# Altium schematic symbol library SCH - ARM CORTEX - NXP LPC11U2X LQFP64.SCHLIB: 1 symbol
Pins are listed as number, name and electrical type; pins without a type are passive.

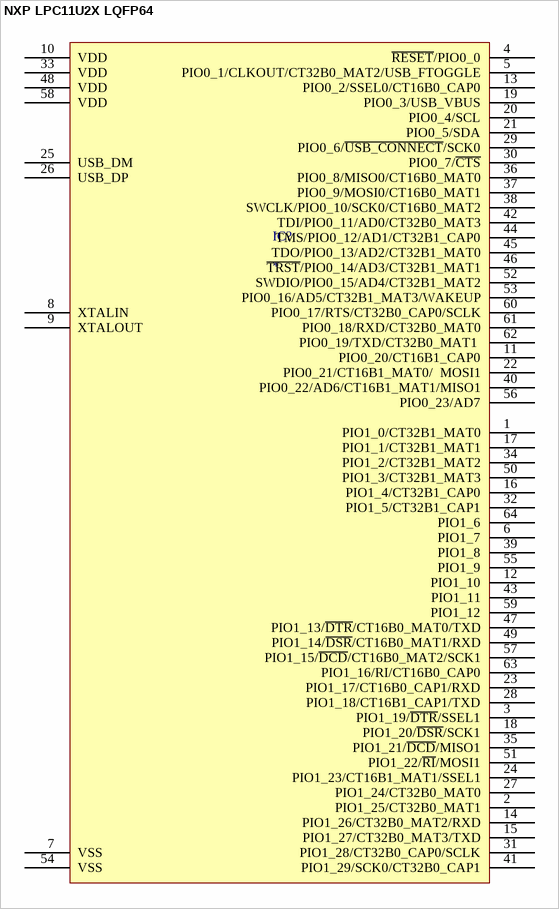
[diagram p0: symbol NXP LPC11U2X LQFP64]

## NXP LPC11U2X LQFP64
designator IC?
pins: 1 PIO1_0/CT32B1_MAT0, 2 PIO1_25/CT32B0_MAT1, 3 PIO1_19/~{DTR}/SSEL1, 4 ~{RESET}/PIO0_0, 5 PIO0_1/CLKOUT/CT32B0_MAT2/USB_FTOGGLE, 6 PIO1_7, 7 VSS, 8 XTALIN, 9 XTALOUT, 10 VDD, 11 PIO0_20/CT16B1_CAP0, 12 PIO1_10, 13 PIO0_2/SSEL0/CT16B0_CAP0, 14 PIO1_26/CT32B0_MAT2/RXD, 15 PIO1_27/CT32B0_MAT3/TXD, 16 PIO1_4/CT32B1_CAP0, 17 PIO1_1/CT32B1_MAT1, 18 PIO1_20/~{DSR}/SCK1, 19 PIO0_3/USB_VBUS, 20 PIO0_4/SCL, 21 PIO0_5/SDA, 22 PIO0_21/CT16B1_MAT0/  MOSI1, 23 PIO1_17/CT16B0_CAP1/RXD, 24 PIO1_23/CT16B1_MAT1/SSEL1, 25 USB_DM, 26 USB_DP, 27 PIO1_24/CT32B0_MAT0, 28 PIO1_18/CT16B1_CAP1/TXD, 29 PIO0_6/~{USB_CONNECT}/SCK0, 30 PIO0_7/~{CTS}, 31 PIO1_28/CT32B0_CAP0/SCLK, 32 PIO1_5/CT32B1_CAP1, 33 VDD, 34 PIO1_2/CT32B1_MAT2, 35 PIO1_21/~{DCD}/MISO1, 36 PIO0_8/MISO0/CT16B0_MAT0, 37 PIO0_9/MOSI0/CT16B0_MAT1, 38 SWCLK/PIO0_10/SCK0/CT16B0_MAT2, 39 PIO1_8, 40 PIO0_22/AD6/CT16B1_MAT1/MISO1, 41 PIO1_29/SCK0/CT32B0_CAP1, 42 TDI/PIO0_11/AD0/CT32B0_MAT3, 43 PIO1_11, 44 TMS/PIO0_12/AD1/CT32B1_CAP0, 45 TDO/PIO0_13/AD2/CT32B1_MAT0, 46 ~{TRST}/PIO0_14/AD3/CT32B1_MAT1, 47 PIO1_13/~{DTR}/CT16B0_MAT0/TXD, 48 VDD, 49 PIO1_14/~{DSR}/CT16B0_MAT1/RXD, 50 PIO1_3/CT32B1_MAT3, 51 PIO1_22/~{RI}/MOSI1, 52 SWDIO/PIO0_15/AD4/CT32B1_MAT2, 53 PIO0_16/AD5/CT32B1_MAT3/WAKEUP, 54 VSS, 55 PIO1_9, 56 PIO0_23/AD7, 57 PIO1_15/~{DCD}/CT16B0_MAT2/SCK1, 58 VDD, 59 PIO1_12, 60 PIO0_17/RTS/CT32B0_CAP0/SCLK, 61 PIO0_18/RXD/CT32B0_MAT0, 62 PIO0_19/TXD/CT32B0_MAT1 , 63 PIO1_16/RI/CT16B0_CAP0, 64 PIO1_6